# EAGLE library part AU-Y1008-2 (library USB connector)
CONN RCPT USB2.0 TYPEA STACK R/A Manufacturer's datasheet <http://www.assmann-wsw.com/fileadmin/datasheets/ASS_5780_CO.pdf>
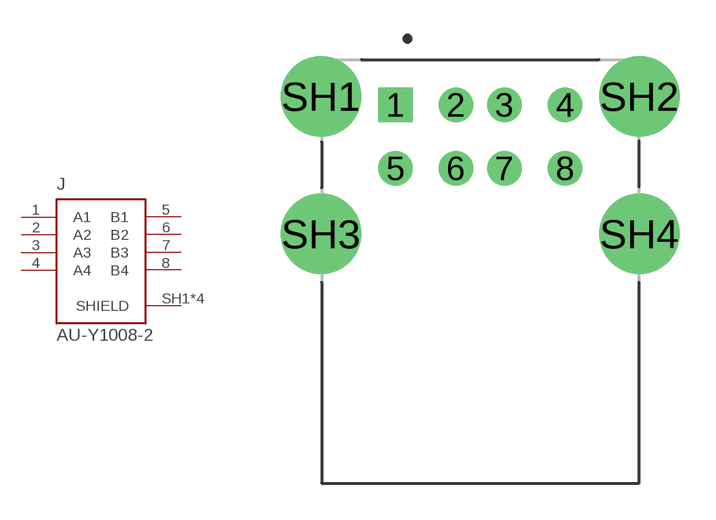
[diagram p5: symbol with the pads of AU-Y1008-2; footprint AU-Y1008-2]

Designator prefix J

## AU-Y1008-2 (CREATED_BY: PCBLayout.com; DIGIKEY_PARTNO: AE11131-ND; MANUFACTURER: Assmann WSW Components; MPN: AU-Y1008-2)  [AU-Y1008-2]
1  A1  pas
2  A2  pas
3  A3  pas
4  A4  pas
5  B1  pas
6  B2  pas
7  B3  pas
8  B4  pas
SH1  SHIELD  pas
SH2  SHIELD  pas
SH3  SHIELD  pas
SH4  SHIELD  pas

## Footprint AU-Y1008-2 (pad centres in mm)
drill 0.92 square: 1 -3.5,5.33
drill 0.92: 2 -1,5.33; 3 1,5.33; 4 3.5,5.33; 5 -3.5,2.71; 6 -1,2.71; 7 1,2.71; 8 3.5,2.71
drill 2.3: SH1 -6.57,5.68; SH2 6.57,5.68; SH3 -6.57,0; SH4 6.57,0